# EAGLE library part SMT-GDT (library utesla)
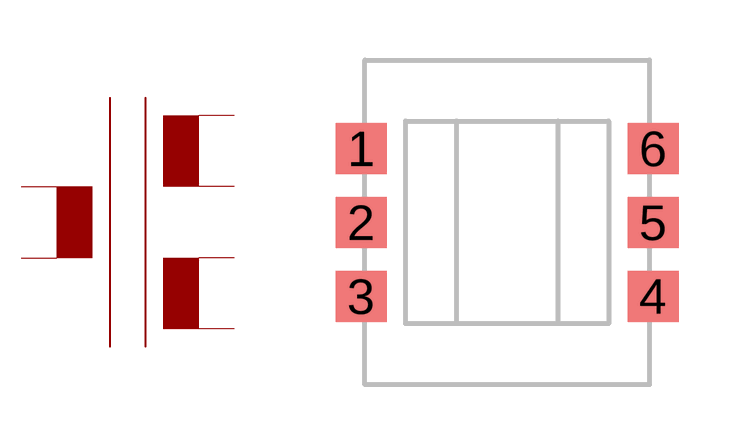
[diagram p2: symbol with the pads of SMT-GDT; footprint SMT-GDT]

Designator prefix -

## SMT-GDT  [SMT-GDT]
1  PRIA  in
2  SEC1A  out
3  SEC2A  out
4  SEC2B  out
5  SEC1B  out
6  PRIB  in

## Footprint SMT-GDT (pad centres in mm)
smd 1.28 x 1.27: 1 -3.65,1.85; 2 -3.65,0; 3 -3.65,-1.85; 4 3.65,-1.85; 5 3.65,0; 6 3.65,1.85